# Altium footprint library Diode_Littelfuse_SP3003-02JTG_eec_IPC_C.PcbLib: 1 footprints
Each footprint in its own frame and in the unit in brackets; x right, y up, seen from the top. Pads: shape width x height; smd on the part's side, far side on the other; paste and mask are expansions set on the pad; w line width, h text height; cw(c..) or ccw(c..) is an arc to the next point about the centre after c.
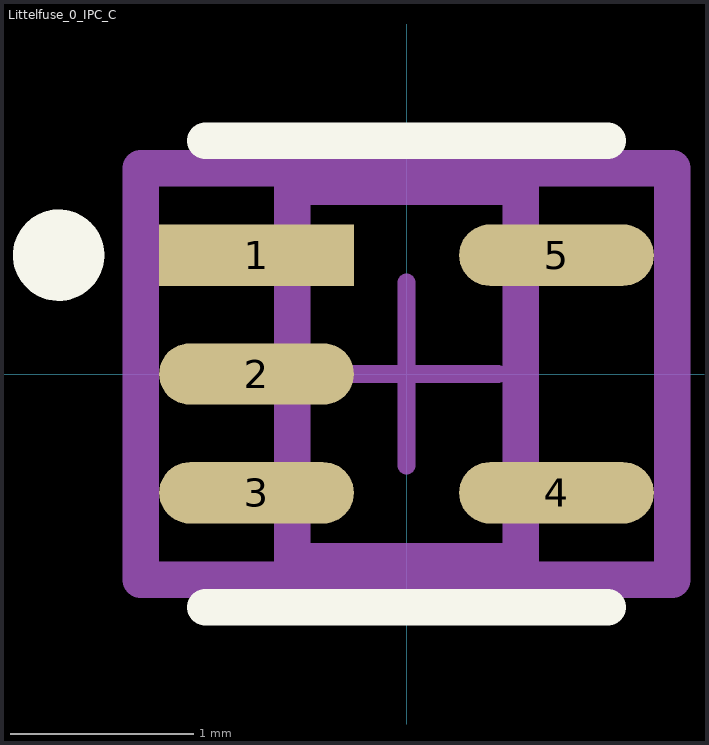
[diagram p0: the footprint, top view; thin cyan lines are the x and y axes]

## Littelfuse_0_IPC_C [mm]
pads (5):
  rect 1.066x0.336 smd paste+0 mask+0: 1(-0.82,0.65)
  rrect100% 1.066x0.336 smd paste+0 mask+0: 2(-0.82,0) 3(-0.82,-0.65) 4(0.82,-0.65) 5(0.82,0.65)
Top Overlay:
  circle w0.25: c-1.903,0.65 r0.125
  lines w0.2: -1.1,-1.275 1.1,-1.275 ; -1.1,1.275 1.1,1.275
Mechanical 10:
  lines w0.2: -1.453,-1.125 1.453,-1.125 1.453,1.125 -1.453,1.125 -1.453,-1.125
  text ".Designator" at 0,0 h1
Mechanical 12:
  lines w0.2: -0.625,-1.025 0.625,-1.025 0.625,1.025 -0.625,1.025 -0.625,-1.025
Mechanical 15:
  lines w0.1: -0.5,0 0.5,0 ; 0,-0.5 0,0.5
  lines w0.2: -1.453,-1.125 1.453,-1.125 1.453,1.125 -1.453,1.125 -1.453,-1.125
3D body "Diode_Littelfuse_SP3003-02JTG_eec.STEP": height 0.25, standoff 0, extent -1.453,-1.125 1.453,1.125